# Altium footprint library Seaglider_Power_Board_PCB_Library.PcbLib: 28 footprints (part 1 of 2)
Each footprint in its own frame and in the unit in brackets; x right, y up, seen from the top. Pads: shape width x height; smd on the part's side, far side on the other; paste and mask are expansions set on the pad; w line width, h text height; cw(c..) or ccw(c..) is an arc to the next point about the centre after c.
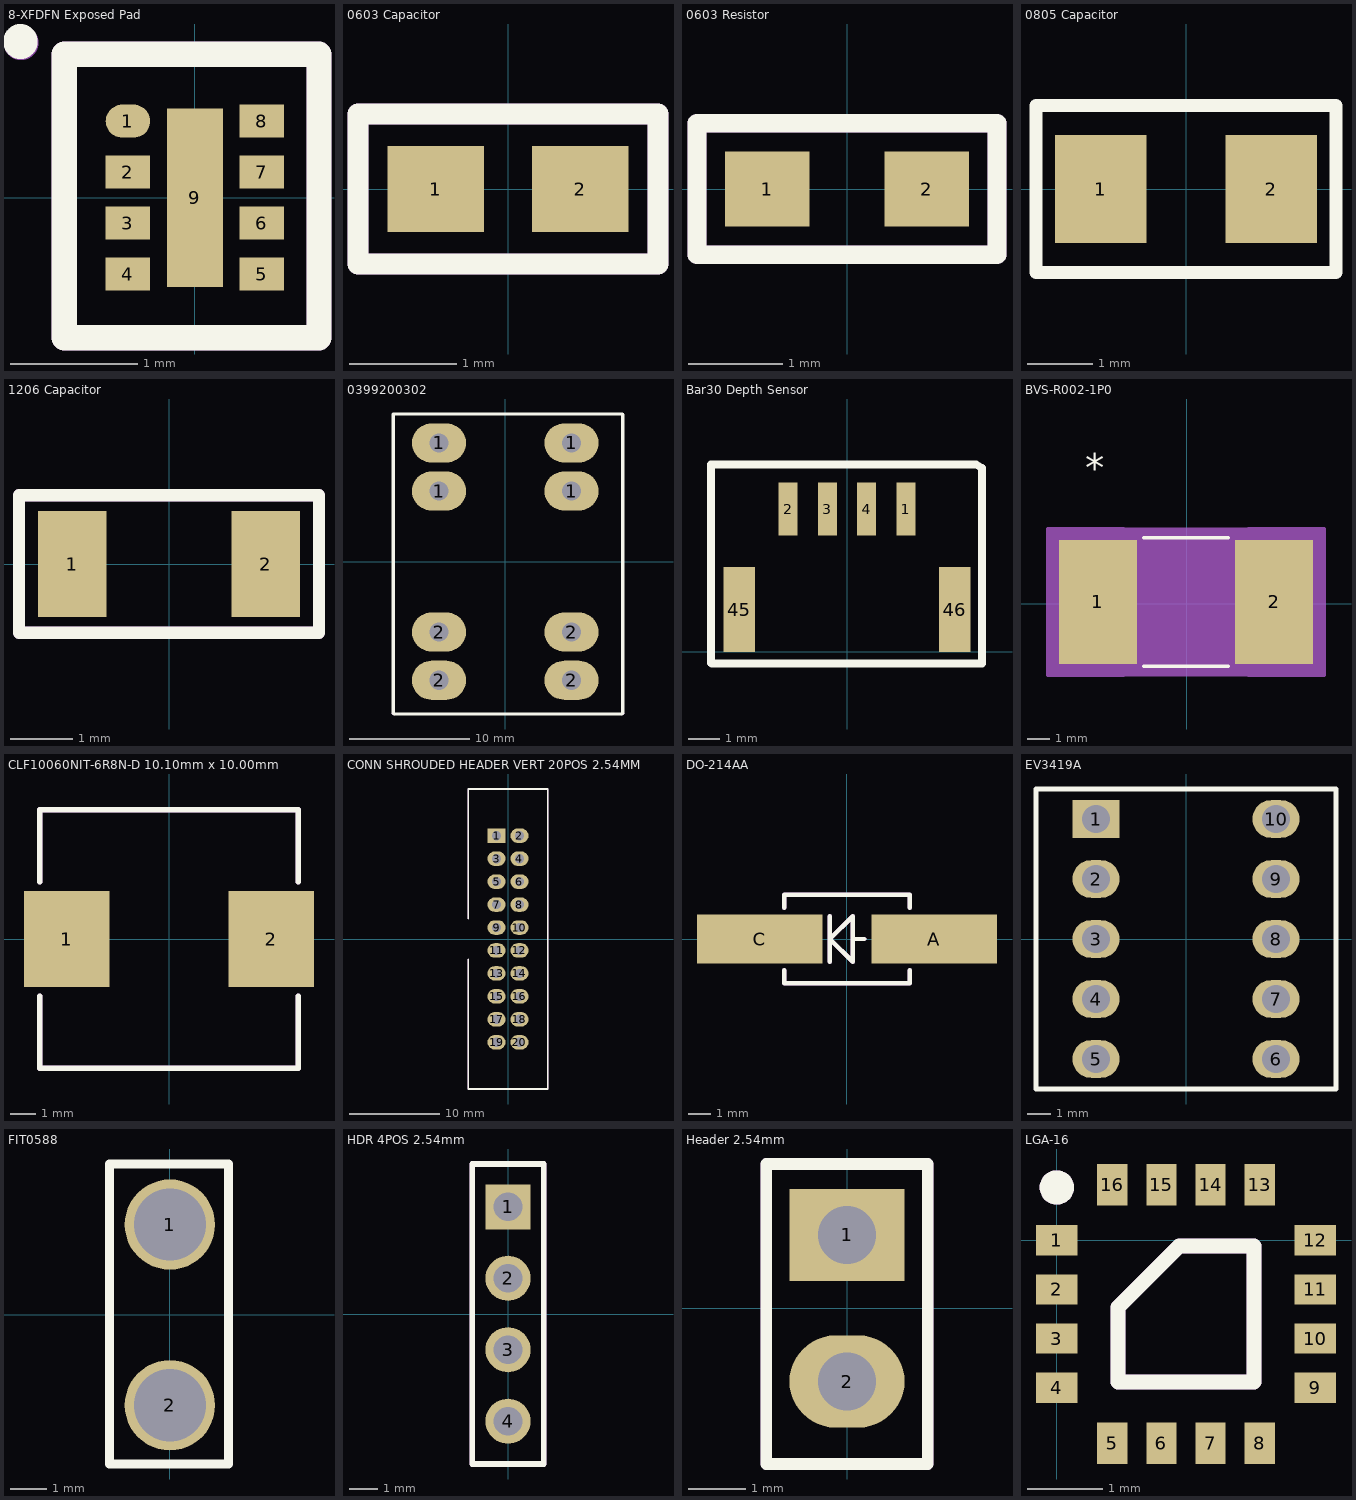
[diagram p0: the footprints below, top view; thin cyan lines are the x and y axes]

## 8-XFDFN Exposed Pad [mm]
pads (9):
  oval 0.35x0.26 smd: 1(-0.525,0.6)
  rect 0.35x0.26 smd: 2(-0.525,0.2) 3(-0.525,-0.2) 4(-0.525,-0.6) 5(0.525,-0.6) 6(0.525,-0.2) 7(0.525,0.2) 8(0.525,0.6)
  rect 0.44x1.4 smd: 9(0,0)
Top Overlay:
  circle w0.254: c-1.37,1.225 r0.01
  lines w0.2: -1.025,-1.1 -1.025,1.125 0.975,1.125 0.975,-1.1 -1.025,-1.1
Top Assembly:
  circle w0.254: c-1.365,1.216 r0.01
  lines w0.2: -1.025,-1.1 0.975,-1.1 0.975,1.125 -1.025,1.125 -1.025,-1.1
  text ".Designator" at -2.221,1.854 h1.5

## 0603 Capacitor [mm]
pads (2):
  rect 0.9x0.8 smd: 1(-0.675,0) 2(0.675,0)
Top Overlay:
  lines w0.2: -1.4,-0.7 -1.4,0.7 1.4,0.7 1.4,-0.7 -1.4,-0.7
Top Assembly:
  lines w0.2: -1.4,-0.7 -1.4,0.7 1.4,0.7 1.4,-0.7 -1.4,-0.7
  text ".Designator" at -1.07,-0.162 h1.2
3D body "C_0603_1608Metric.step": height 0.8, standoff 0, extent -0.8,-0.4 0.8,0.4

## 0603 Resistor [mm]
pads (2):
  rect 0.9x0.8 smd: 1(-0.85,0) 2(0.85,0)
Top Overlay:
  lines w0.2: -1.6,-0.7 1.6,-0.7 1.6,0.7 -1.6,0.7 -1.6,-0.7
Top Assembly:
  lines w0.2: -1.6,-0.7 1.6,-0.7 1.6,0.7 -1.6,0.7 -1.6,-0.7
  text ".Designator" at -1.4,-0.1 h1.2
3D body "R_0603_1608Metric.step": height 0.45, standoff 0, extent -0.8,-0.4 0.8,0.4

## 0805 Capacitor [mm]
pads (2):
  rect 1.4x1.65 smd: 1(-1.3,0) 2(1.3,0)
Top Overlay:
  lines w0.2: -2.286,-1.27 -2.286,1.27 2.286,1.27 2.286,-1.27 -2.286,-1.27

## 1206 Capacitor [mm]
pads (2):
  rect 1.1x1.7 smd: 1(-1.55,0) 2(1.55,0)
Top Overlay:
  lines w0.2: -2.4,-1.1 -2.4,1.1 2.4,1.1 2.4,-1.1 -2.4,-1.1
Top Assembly:
  lines w0.2: -2.4,-1.1 -2.4,1.1 2.4,1.1 2.4,-1.1 -2.4,-1.1
  text ".Designator" at -2.1,-0.5 h1.2
3D body "C_1206_3216Metric.step": height 1.6, standoff 0, extent -1.6,-0.8 1.6,0.8

## 0399200302 [mm] "Connector"
pads (8):
  oval 4.5x3.25 hole 1.6: 1(-5.5,5.85) 1(-5.5,9.85) 1(5.5,5.85) 1(5.5,9.85) 2(-5.5,-9.85) 2(-5.5,-5.85) 2(5.5,-9.85) 2(5.5,-5.85)
Top Overlay:
  lines w0.254: -9.3,-12.6 -9.3,12.25 9.725,12.25 9.75,12.225 9.75,-12.6 ; -9.25,-12.65 9.7,-12.65
Assembly:
  lines w0.254: -9.3,-12.6 -9.25,-12.65 ; 9.7,-12.65 9.75,-12.6

## Bar30 Depth Sensor [mm] "Measurement Specialties MS5837-30BA"
height 16
pads (6):
  rect 0.6x1.7 smd: 1(1.875,4.55) 2(-1.875,4.55) 3(-0.625,4.55) 4(0.625,4.55)
  rect 1x2.7 smd: 45(-3.425,1.35) 46(3.425,1.35)
Top Overlay:
  lines w0.254: 4.225,-0.375 -4.3,-0.375 -4.325,-0.35 -4.325,5.975 4.1,5.975 4.3,5.85 4.3,-0.375

## BVS-R002-1P0 [mil]
pads (2):
  rect 138x219 smd paste+0 mask+0: 1(-157.08,2.69) 2(154.92,2.69)
Top Overlay:
  lines w6: -75.6,-110.81 73.45,-110.81 ; -75.6,116.19 73.45,116.19
  text "*" at -179.58,216.69 h50
Mechanical 13:
  lines w0: -13.08,111.19 ccw(c-1.08,111.19) 10.92,111.19
  lines w1: -91.58,-105.81 -91.58,111.19 ; -91.58,-105.81 89.42,-105.81 ; -91.58,-105.81 -204.08,-105.81 -204.08,111.19 -91.58,111.19 ; -91.58,-105.81 -91.58,111.19 ; -91.58,111.19 89.42,111.19 ; 89.42,-105.81 89.42,111.19 ; 89.42,-105.81 201.92,-105.81 201.92,111.19 89.42,111.19 ; 89.42,-105.81 89.42,111.19
  text "*" at -89.08,58.19 h50
Mechanical 15:
  region: -111.58,-126.81 -246.08,-126.81 -246.08,132.19 -111.58,132.19 -111.58,131.19 109.42,131.19 109.42,132.19 243.92,132.19 243.92,-126.81 109.42,-126.81 109.42,-125.81 -111.58,-125.81
  lines w6: -246.08,-126.81 -111.58,-126.81 -111.58,-125.81 109.42,-125.81 109.42,-126.81 243.92,-126.81 243.92,132.19 109.42,132.19 109.42,131.19 -111.58,131.19 -111.58,132.19 -246.08,132.19 -246.08,-126.81
3D body "RES_BVS-3920_ISA.step": height 48.11, standoff 0, extent -204.07,-105.82 201.92,111.19
3D body "RES_BVS-3920_ISA.step": height 48.11, standoff 0, extent -204.07,-105.82 201.92,111.19

## CLF10060NIT-6R8N-D 10.10mm x 10.00mm [mm]
pads (2):
  rect 3.3x3.7 smd: 1(-3.95,0) 2(3.95,0)
Top Overlay:
  lines w0.2: -5,-2.2 -5,-5 5,-5 5,-2.2 ; -5,2.2 -5,5 5,5 5,2.2
Top Assembly:
  lines w0.2: -5,-2.2 -5,-5 5,-5 5,-2.2 ; -5,2.2 -5,5 5,5 5,2.2
  text ".Designator" at -4.896,5.987 h1.52

## CONN SHROUDED HEADER VERT 20POS 2.54MM [mm]
pads (20):
  rect 2x1.6 hole 1.02: 1(-1.27,11.43)
  oval 2x1.6 hole 1.02: 2(1.27,11.43) 3(-1.27,8.89) 4(1.27,8.89) 5(-1.27,6.35) 6(1.27,6.35) 7(-1.27,3.81) 8(1.27,3.81) 9(-1.27,1.27) 10(1.27,1.27) 11(-1.27,-1.27) 12(1.27,-1.27) 13(-1.27,-3.81) 14(1.27,-3.81) 15(-1.27,-6.35) 16(1.27,-6.35) 17(-1.27,-8.89) 18(1.27,-8.89) 19(-1.27,-11.43) 20(1.27,-11.43)
Top Overlay:
  lines w0.2: -4.4,-2.25 -4.4,-16.6 4.4,-16.6 4.4,16.6 -4.4,16.6 -4.4,2.25
Top Assembly:
  lines w0.2: -4.4,-2.25 -4.4,-16.6 4.4,-16.6 4.4,16.6 -4.4,16.6 -4.4,2.25
  text ".Designator" at -4.064,17.526 h1.52
3D body "BHR-20-VUA .step": height 8.8, standoff -3.3, extent -4.4,-16.4 4.4,16.6

## DO-214AA [mm]
pads (2):
  rect 5.59x2.18 smd: A(3.875,0) C(-3.874,0)
Top Overlay:
  lines w0.2: -2.795,-1.4 -2.795,-1.97 2.795,-1.97 2.795,-1.4 ; -2.795,1.4 -2.795,1.97 2.795,1.97 2.795,1.4 ; -0.762,-1.016 -0.762,1.016 ; 0.254,0 0.762,0 ; -0.762,0 0.254,1.016 0.254,-1.016 -0.762,0
Top Assembly:
  lines w0.2: -2.795,-1.4 -2.795,-1.97 2.795,-1.97 2.795,-1.4 ; -2.795,1.4 -2.795,1.97 2.795,1.97 2.795,1.4 ; -0.762,-1.016 -0.762,1.016 ; 0.254,0 0.762,0 ; -0.762,0 0.254,1.016 0.254,-1.016 -0.762,0
  text ".Designator" at -2.54,2.794 h1.52

## EV3419A [mm]
pads (10):
  rect 2x1.6 hole 1.2: 1(-3.81,5.08)
  oval 2x1.6 hole 1.2: 2(-3.81,2.54) 3(-3.81,0) 4(-3.81,-2.54) 5(-3.81,-5.08) 6(3.81,-5.08) 7(3.81,-2.54) 8(3.81,0) 9(3.81,2.54) 10(3.81,5.08)
Top Overlay:
  lines w0.2: -6.35,-6.35 6.35,-6.35 6.35,6.35 -6.35,6.35 -6.35,-6.35
Top Assembly:
  text ".Designator" at -6.146,7.462 h1.52

## FIT0588 [mm] "HIGH QUALITY GOLD PLATED XT90 MA Bullet Connector"
height 0.4
pads (2):
  round 2.5 hole 2: 1(0,2.5) 2(0,-2.5)
Top Overlay:
  lines w0.254: -1.675,-4.125 1.625,-4.125 1.625,4.175 -1.675,4.175 -1.675,-4.125

## HDR 4POS 2.54mm [mm]
pads (4):
  rect 1.6x1.6 hole 1.02: 1(0,3.81)
  round 1.6 hole 1.02: 2(0,1.27) 3(0,-1.27) 4(0,-3.81)
Top Overlay:
  lines w0.2: -1.27,-5.33 1.27,-5.33 1.27,5.33 -1.27,5.33 -1.27,-5.33
  text ".Designator" at -1.146,6.562 h1.52
Assembly:
  lines w0.2: -1.27,-5.33 1.27,-5.33 1.27,5.33 -1.27,5.33 -1.27,-5.33
  text ".Designator" at -1.146,6.562 h1.52

## Header 2.54mm [mm]
pads (2):
  rect 2x1.6 hole 1: 1(0,1.27)
  oval 2x1.6 hole 1: 2(0,-1.27)
Top Overlay:
  lines w0.2: -1.4,-2.7 1.4,-2.7 1.4,2.5 -1.4,2.5 -1.4,-2.7
Top Assembly:
  lines w0.2: -1.4,-2.7 1.4,-2.7 1.4,2.5 -1.4,2.5 -1.4,-2.7
  text ".Designator" at -1.2,3.1 h1.2
3D body "PinHeader_1x02_P2.54mm_Vertical.step": height 8.54, standoff -3, extent -1.27,-2.54 1.27,2.54

## LGA-16 [mm]
pads (16):
  rect 0.55x0.4 smd: 1(0,0) 2(0,-0.65) 3(0,-1.3) 4(0,-1.95) 9(3.42,-1.95) 10(3.42,-1.3) 11(3.42,-0.65) 12(3.42,0)
  rect 0.4x0.55 smd: 5(0.735,-2.685) 6(1.385,-2.685) 7(2.035,-2.685) 8(2.685,-2.685) 13(2.685,0.735) 14(2.035,0.735) 15(1.385,0.735) 16(0.735,0.735)
Top Overlay:
  circle w0.254: c0,0.7 r0.1
  lines w0.2: 0.81,-1.875 2.61,-1.875 2.61,-0.075 1.62,-0.075 0.81,-0.885 0.81,-1.875
Top Assembly:
  circle w0.254: c0,0.7 r0.1
  lines w0.2: 0.81,-1.875 2.61,-1.875 2.61,-0.075 1.62,-0.075 0.81,-0.885 0.81,-1.875
  text ".Designator" at 0.585,-1.565 h1.2
3D body "LGA-16_4X4X1_STM.step": height 0.99, standoff 0, extent -0.36,-3.035 3.78,1.105